# Altium footprint library SOD123W.PcbLib: 1 footprints
Each footprint in its own frame and in the unit in brackets; x right, y up, seen from the top. Pads: shape width x height; smd on the part's side, far side on the other; paste and mask are expansions set on the pad; w line width, h text height; cw(c..) or ccw(c..) is an arc to the next point about the centre after c.
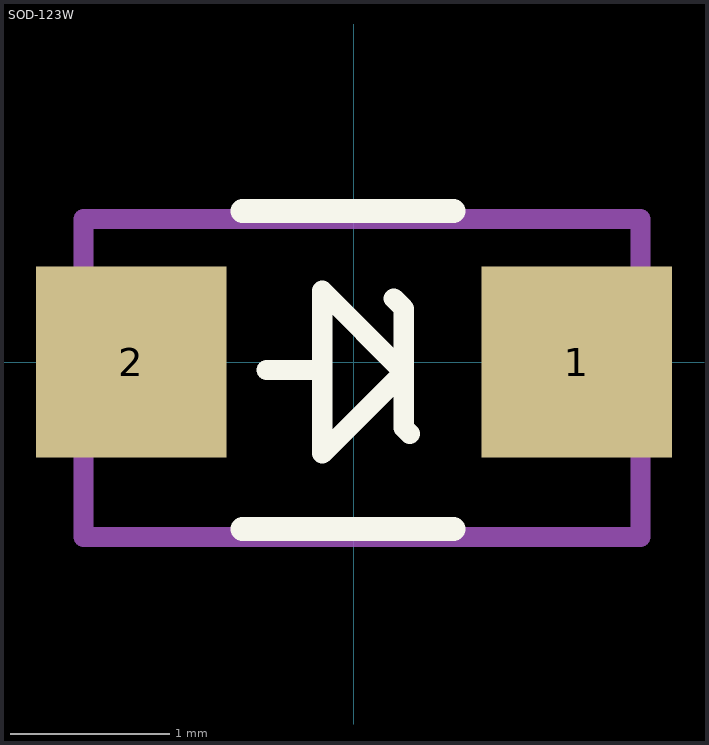
[diagram p0: the footprint, top view; thin cyan lines are the x and y axes]

## SOD-123W [mm]
height 1.7
pads (2):
  rect 1.2x1.2 smd mask+0.1: 1(1.4,0) 2(-1.4,0)
Top Overlay:
  lines w0.127: -0.55,-0.05 -0.2,-0.05 ; 0.25,0.4 0.313,0.337 0.313,-0.063 ; 0.35,-0.45 0.313,-0.413 0.313,-0.063 ; -0.2,-0.576 0.313,-0.063 ; -0.2,-0.576 -0.2,-0.05 ; -0.2,-0.576 -0.2,-0.05 ; -0.2,-0.05 -0.2,0.45 0.313,-0.063
  lines w0.15: -0.7,-1.05 -0.369,-1.05 0.294,-1.05 0.625,-1.05 ; -0.7,0.95 0.625,0.95
Mechanical 13:
  lines w0.127: -1.7,-1.1 -1.7,0.9 1.8,0.9 1.8,-1.1 -1.7,-1.1
3D body "SOD123W.step": height 1.07, standoff 0, extent -1.7,-1.1 1.8,0.9